# Altium footprint library 2450BP15E0100E.PcbLib: 1 footprints
Each footprint in its own frame and in the unit in brackets; x right, y up, seen from the top. Pads: shape width x height; smd on the part's side, far side on the other; paste and mask are expansions set on the pad; w line width, h text height; cw(c..) or ccw(c..) is an arc to the next point about the centre after c.
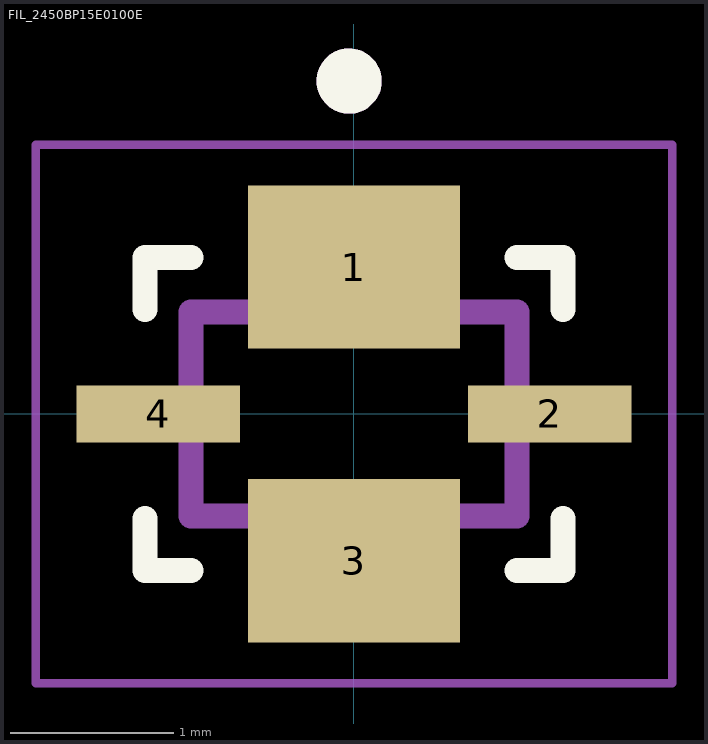
[diagram p0: the footprint, top view; thin cyan lines are the x and y axes]

## FIL_2450BP15E0100E [mm]
pads (4):
  rect 1.3x1 smd: 1(0,0.9) 3(0,-0.9)
  rect 1x0.35 smd: 2(1.2,0) 4(-1.2,0)
Top Overlay:
  circle w0.2: c-0.03,2.04 r0.1
  lines w0.152: -1.28,-0.64 -1.28,-0.96 -1,-0.96 ; -1.28,0.64 -1.28,0.96 -1,0.96 ; 1,-0.96 1.28,-0.96 1.28,-0.64 ; 1,0.96 1.28,0.96 1.28,0.64
Mechanical 13:
  circle w0.2: c-0.03,2.04 r0.1
  lines w0.152: -1,-0.625 1,-0.625 1,0.625 -1,0.625 -1,-0.625
Mechanical 15:
  lines w0.05: -1.95,-1.65 1.95,-1.65 1.95,1.65 -1.95,1.65 -1.95,-1.65